# Altium schematic symbol library SCH - POWER - SWITCHMODE - TI TPS63020QDSJ.SchLib: 1 symbol
Pins are listed as number, name and electrical type; pins without a type are passive.

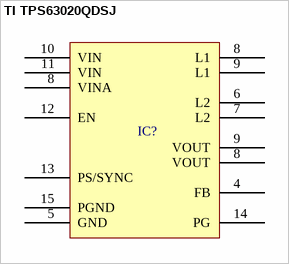
[diagram p0: symbol TI TPS63020QDSJ]

## TI TPS63020QDSJ
designator IC?
pins: 4 FB, 5 GND, 6 L2, 7 L2, 8 VINA, 8 VOUT, 8 L1, 9 VOUT, 9 L1, 10 VIN, 11 VIN, 12 EN, 13 PS/SYNC, 14 PG, 15 PGND